# Altium footprint library Private.PcbLib: 9 footprints
Each footprint in its own frame and in the unit in brackets; x right, y up, seen from the top. Pads: shape width x height; smd on the part's side, far side on the other; paste and mask are expansions set on the pad; w line width, h text height; cw(c..) or ccw(c..) is an arc to the next point about the centre after c.
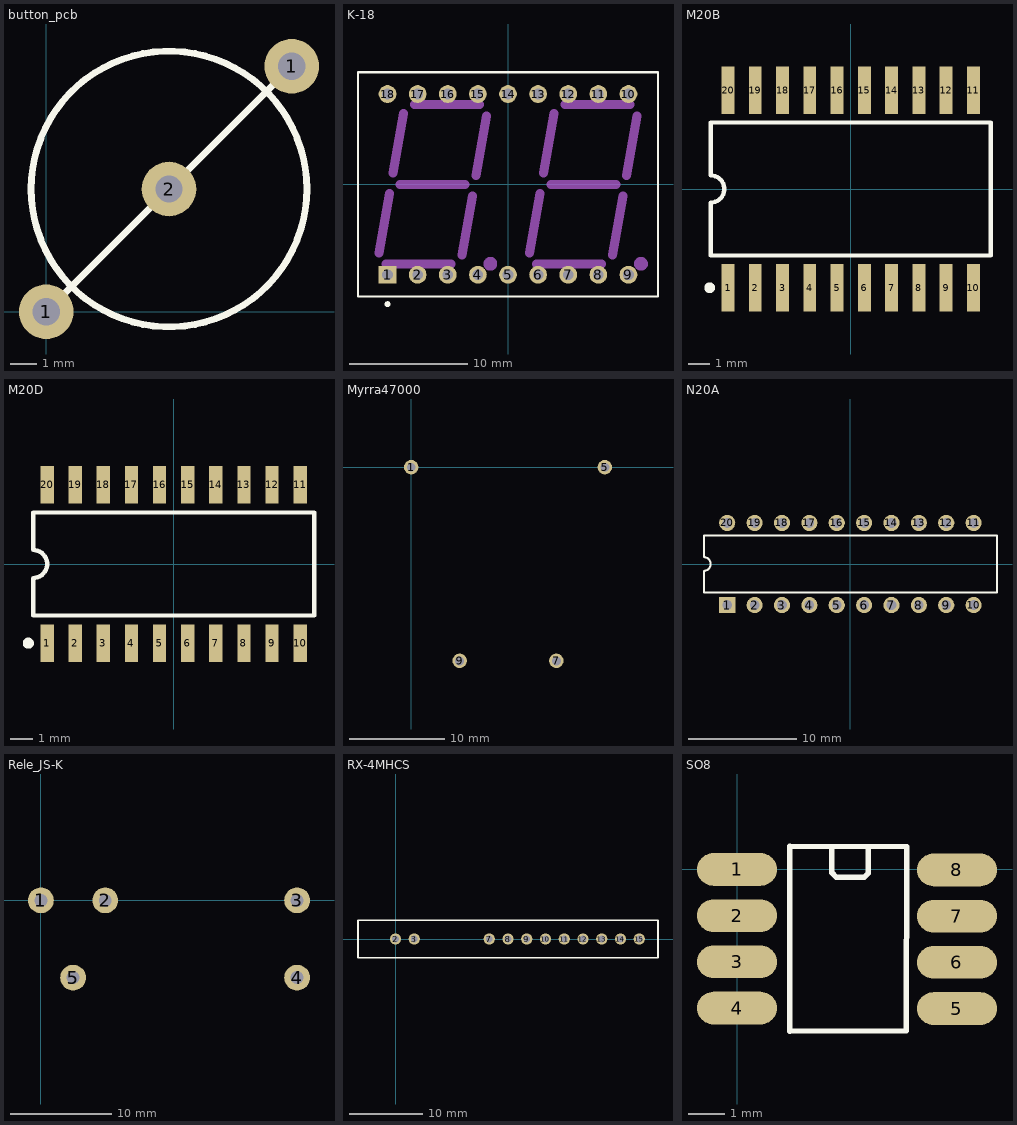
[diagram p0: the footprints below, top view; thin cyan lines are the x and y axes]

## button_pcb [mil]
height 5
pads (3):
  round 80 hole 40: 1(0,0) 1(360,360) 2(180,180)
Top Overlay:
  circle w10: c180,180 r202.24
  lines w10: 0,0 360,360

## K-18 [mm] "LED, 7-Segment Display, 14.22 mm, Dual Digit; 18 Leads; Row Space 15.24 mm; Pitch 2.54 mm"
height 8.25
pads (18):
  rect 1.5x1.5 hole 0.9: 1(-10.16,-7.62)
  round 1.5 hole 0.9: 2(-7.62,-7.62) 3(-5.08,-7.62) 4(-2.54,-7.62) 5(0,-7.62) 6(2.54,-7.62) 7(5.08,-7.62) 8(7.62,-7.62) 9(10.16,-7.62) 10(10.16,7.62) 11(7.62,7.62) 12(5.08,7.62) 13(2.54,7.62) 14(0,7.62) 15(-2.54,7.62) 16(-5.08,7.62) 17(-7.62,7.62) 18(-10.16,7.62)
Top Overlay:
  circle w0.25: c-10.16,-10.1 r0.125
  lines w0.2: -12.65,-9.45 -12.65,9.45 12.65,9.45 12.65,-9.45 -12.65,-9.45
Mechanical 1:
  circle w0.86: c-1.49,-6.7 r0.15
  circle w0.86: c11.21,-6.7 r0.15
  lines w0.762: -10.88,-5.77 -10,-0.76 ; -10.28,-6.73 -4.8,-6.73 ; -9.69,0.97 -8.81,5.97 ; -9.09,0 -3.61,0 ; -7.9,6.73 -2.42,6.73 ; -3.89,-5.97 -3.01,-0.96 ; -2.7,0.76 -1.82,5.77 ; 1.82,-5.77 2.7,-0.76 ; 2.42,-6.73 7.9,-6.73 ; 3.01,0.97 3.89,5.97 ; 3.61,0 9.09,0 ; 4.8,6.73 10.28,6.73 ; 8.81,-5.97 9.69,-0.96 ; 10,0.76 10.88,5.77

## M20B [mm] "Small Outline; 20 Leads; Body Width 7.5 mm; Pitch 1.27 mm"
height 2.6
pads (20):
  rect 0.6x2.2 smd: 1(-5.715,-4.6) 2(-4.445,-4.6) 3(-3.175,-4.6) 4(-1.905,-4.6) 5(-0.635,-4.6) 6(0.635,-4.6) 7(1.905,-4.6) 8(3.175,-4.6) 9(4.445,-4.6) 10(5.715,-4.6) 11(5.715,4.6) 12(4.445,4.6) 13(3.175,4.6) 14(1.905,4.6) 15(0.635,4.6) 16(-0.635,4.6) 17(-1.905,4.6) 18(-3.175,4.6) 19(-4.445,4.6) 20(-5.715,4.6)
Top Overlay:
  circle w0.25: c-6.565,-4.6 r0.125
  lines w0.2: -6.525,-3.1 -6.525,-0.635 ccw(c-6.525,0) -6.525,0.635 -6.525,3.1 6.525,3.1 6.525,-3.1 -6.525,-3.1

## M20D [mm] "Small Outline; 20 Leads; Body Width 5.3 mm; Pitch 1.27 mm"
height 2.1
pads (20):
  rect 0.6x1.7 smd: 1(-5.715,-3.575) 2(-4.445,-3.575) 3(-3.175,-3.575) 4(-1.905,-3.575) 5(-0.635,-3.575) 6(0.635,-3.575) 7(1.905,-3.575) 8(3.175,-3.575) 9(4.445,-3.575) 10(5.715,-3.575) 11(5.715,3.575) 12(4.445,3.575) 13(3.175,3.575) 14(1.905,3.575) 15(0.635,3.575) 16(-0.635,3.575) 17(-1.905,3.575) 18(-3.175,3.575) 19(-4.445,3.575) 20(-5.715,3.575)
Top Overlay:
  circle w0.25: c-6.565,-3.575 r0.125
  lines w0.2: -6.35,-2.325 -6.35,-0.635 ccw(c-6.35,0) -6.35,0.635 -6.35,2.325 6.35,2.325 6.35,-2.325 -6.35,-2.325

## Myrra47000 [mil] "AC/DC converter Myrra 47000 series"
height 800
pads (4):
  round 60 hole 37: 1(0,0) 5(800,0) 7(600,-800) 9(200,-800)
Bottom Overlay:
  lines w10: -220,-920 1020,-920 1020,120 -220,120 -220,-920

## N20A [mm] "DIP; 20 Leads; Row Spacing 7.62 mm; Pitch 2.54 mm"
height 5.08
pads (20):
  rect 1.5x1.5 hole 0.9: 1(-11.43,-3.81)
  round 1.5 hole 0.9: 2(-8.89,-3.81) 3(-6.35,-3.81) 4(-3.81,-3.81) 5(-1.27,-3.81) 6(1.27,-3.81) 7(3.81,-3.81) 8(6.35,-3.81) 9(8.89,-3.81) 10(11.43,-3.81) 11(11.43,3.81) 12(8.89,3.81) 13(6.35,3.81) 14(3.81,3.81) 15(1.27,3.81) 16(-1.27,3.81) 17(-3.81,3.81) 18(-6.35,3.81) 19(-8.89,3.81) 20(-11.43,3.81)
Top Overlay:
  lines w0.2: -13.6,-2.65 -13.6,-0.635 ccw(c-13.6,0) -13.6,0.635 -13.6,2.65 13.6,2.65 13.6,-2.65 -13.6,-2.65

## Rele_JS-K [mil] "Rele - K contacts configuration"
height 200
pads (5):
  round 100 hole 50: 1(0,0) 2(250,0) 3(995,0) 4(995,-300) 5(125,-300)
Bottom Overlay:
  lines w10: -85,-350 -85,50 1080,50 1080,-350 -85,-350

## RX-4MHCS [mil] "433MHz 4 channels receiver"
height 100
pads (11):
  round 60 hole 37: 2(0,0) 3(100,0) 7(500,0) 8(600,0) 9(700,0) 10(800,0) 11(900,0) 12(1000,0) 13(1100,0) 14(1200,0) 15(1300,0)
Top Overlay:
  lines w10: -200,-100 1400,-100 1400,100 -100,100 -200,100 -200,-100

## SO8 [mm]
pads (8):
  oval 2.2x0.9 smd: 1(0,0) 2(0,-1.27) 3(0,-2.54) 4(0,-3.81) 5(6.045,-3.823) 6(6.045,-2.553) 7(6.045,-1.283) 8(6.045,-0.013)
Top Overlay:
  lines w0.15: 2.603,0.622 2.603,-0.089 2.73,-0.216 3.492,-0.216 3.607,-0.102 3.607,0.61 ; 1.448,-4.445 4.648,-4.432 4.661,0.622 1.448,0.635 1.448,-4.445